# EAGLE library part 219-04-LPST (library switches)
SWITCH TAPE SEAL 4 POS SMD
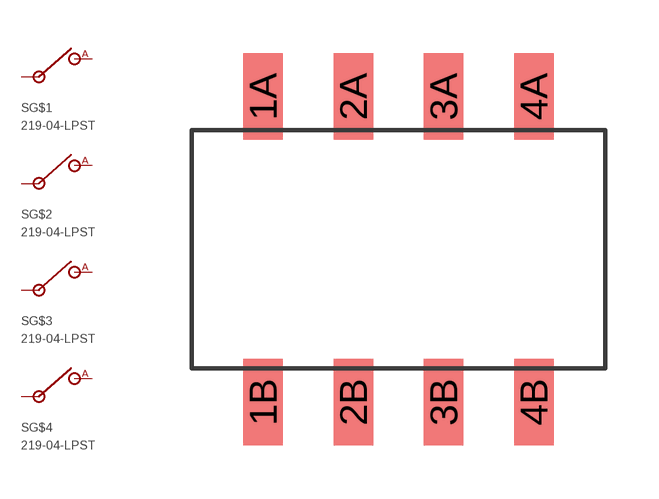
[diagram p3: symbol with the pads of 219-04-LPST; footprint 219-04-LPST]

Designator prefix S; gates G$1=SPST G$2=SPST G$3=SPST G$4=SPST

## 219-04-LPST (DIGIKEY: CT2194LPST-ND)  [219-04-LPST]
1A  G$1:A
1B  G$1:IN
2A  G$2:A
2B  G$2:IN
3A  G$3:A
3B  G$3:IN
4A  G$4:A
4B  G$4:IN

## Footprint 219-04-LPST (pad centres in mm)
4 switch dip switch bank, SPST
smd 1.118 x 2.438: 1A -3.81,4.305; 1B -3.81,-4.305; 2A -1.27,4.305; 2B -1.27,-4.305; 3A 1.27,4.305; 3B 1.27,-4.305; 4A 3.81,4.305; 4B 3.81,-4.305